# Altium footprint library MOD-MAX-M8C-0-10.PcbLib: 1 footprints
Each footprint in its own frame and in the unit in brackets; x right, y up, seen from the top. Pads: shape width x height; smd on the part's side, far side on the other; paste and mask are expansions set on the pad; w line width, h text height; cw(c..) or ccw(c..) is an arc to the next point about the centre after c.
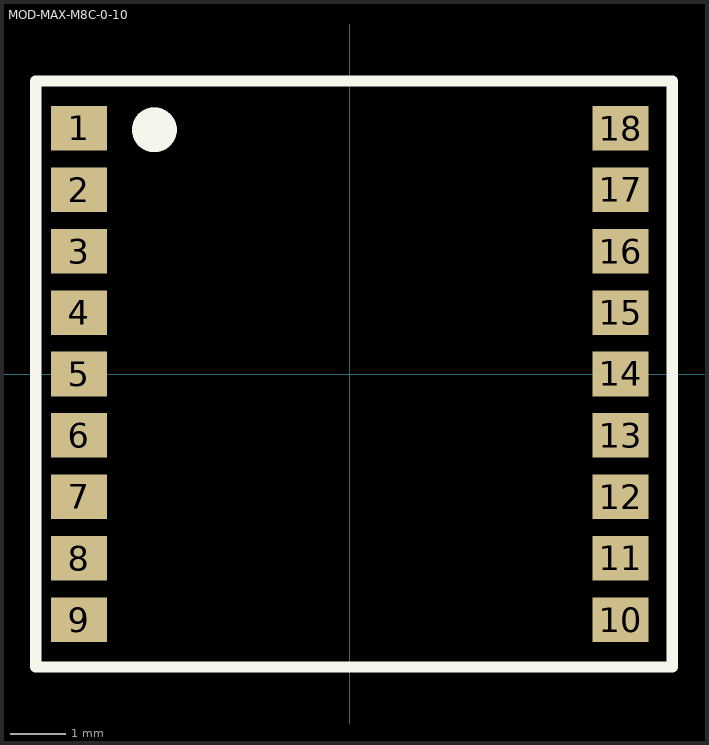
[diagram p0: the footprint, top view; thin cyan lines are the x and y axes]

## MOD-MAX-M8C-0-10 [mm]
pads (18):
  rect 1x0.8 smd paste+0 mask+0.1: 1(-4.85,4.4) 2(-4.85,3.3) 3(-4.85,2.2) 4(-4.85,1.1) 5(-4.85,0) 6(-4.85,-1.1) 7(-4.85,-2.2) 8(-4.85,-3.3) 9(-4.85,-4.4) 10(4.85,-4.4) 11(4.85,-3.3) 12(4.85,-2.2) 13(4.85,-1.1) 14(4.85,0) 15(4.85,1.1) 16(4.85,2.2) 17(4.85,3.3) 18(4.85,4.4)
Top Overlay:
  circle w0.6: c-3.5,4.375 r0.1
  lines w0.2: -5.625,-5.25 5.775,-5.25 5.775,5.25 -5.625,5.25 -5.625,-5.25
Top Assembly:
  circle w0.6: c-3.5,4.375 r0.1
  lines w0.1: -5.625,-5.25 5.775,-5.25 5.775,5.25 -5.625,5.25 -5.625,-5.25
  text "'.Designator'" at 0,0 h0.7
3D body "User Library-MAX-M8 u-blox M8 Concurrent GNSS Module.step": height 2.5, standoff 0, extent -4.851,-5.05 4.851,5.05